# Altium footprint library SRP6540.PcbLib: 1 footprints
Each footprint in its own frame and in the unit in brackets; x right, y up, seen from the top. Pads: shape width x height; smd on the part's side, far side on the other; paste and mask are expansions set on the pad; w line width, h text height; cw(c..) or ccw(c..) is an arc to the next point about the centre after c.
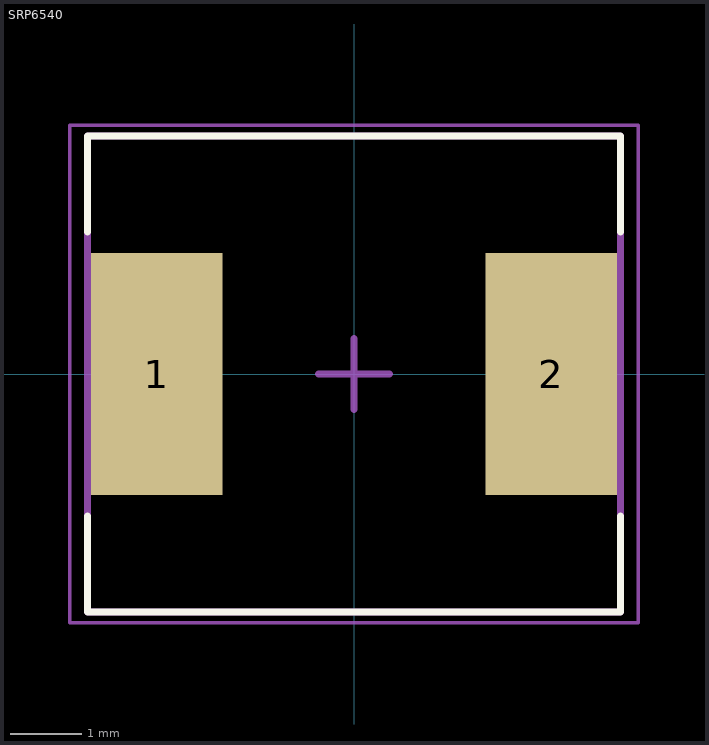
[diagram p0: the footprint, top view; thin cyan lines are the x and y axes]

## SRP6540 [mm]
pads (2):
  rect 1.85x3.4 smd: 1(-2.775,0) 2(2.775,0)
Top Overlay:
  lines w0.1: -3.75,-2 -3.75,-3.35 3.75,-3.35 3.75,-2 ; -3.75,2 -3.75,3.35 3.75,3.35 3.75,2
Mechanical 1:
  lines w0.1: -3.75,-3.35 -3.75,3.35 3.75,3.35 3.75,-3.35 -3.75,-3.35
  text ".Designator" at -3.175,-0.258 h0.65
Mechanical 2:
  lines w0.05: -4,-3.5 4,-3.5 4,3.5 -4,3.5 -4,-3.5
  lines w0.1: -0.5,0 0.5,0 ; 0,-0.5 0,0.5
3D body "SRP 7028A series.stp": height 2.81, standoff -0.02, extent -3.453,-3.299 3.447,3.301